# EAGLE library part ISO7640 (library Fugu_LSI)
Low-Power Quad-Channel Digital Isolators
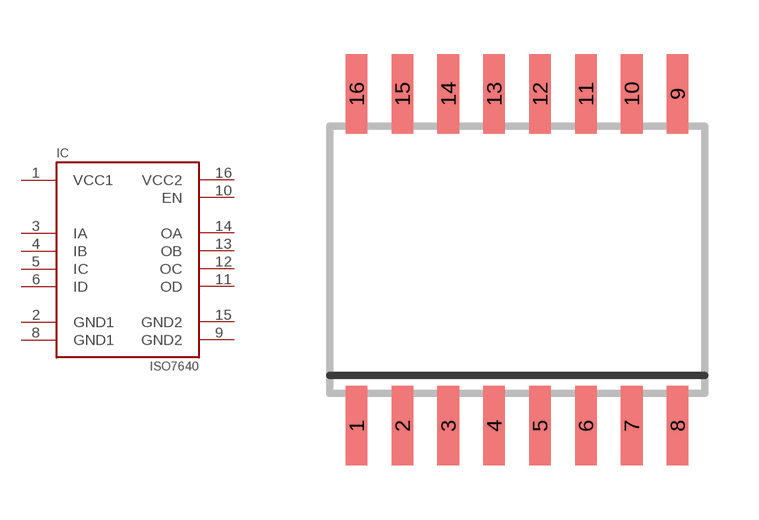
[diagram p11: symbol with the pads of SO16DW; footprint SO16DW]

Designator prefix IC

## ISO7640  [SO16DW]
1  VCC1  pwr
2  GND1  pwr
3  IA  in
4  IB  in
5  IC  in
6  ID  in
8  GND1  pwr
9  GND2  pwr
10  EN  in
11  OD  out
12  OC  out
13  OB  out
14  OA  out
15  GND2  pwr
16  VCC2  pwr

## Footprint SO16DW (pad centres in mm)
SOIC 16 DW SUFFIX PLASTIC SOIC PACKAGE CASE 751G-03 ISSUE B http://www.onsemi.com/pub/Collateral/MC14536B-D.PDF
smd 0.6 x 2.2: 1 -4.445,-4.6; 2 -3.175,-4.6; 3 -1.905,-4.6; 4 -0.635,-4.6; 5 0.635,-4.6; 6 1.905,-4.6; 7 3.175,-4.6; 8 4.445,-4.6; 9 4.445,4.6; 10 3.175,4.6; 11 1.905,4.6; 12 0.635,4.6; 13 -0.635,4.6; 14 -1.905,4.6; 15 -3.175,4.6; 16 -4.445,4.6